# Altium footprint library PcbLib1.PcbLib: 3 footprints
Each footprint in its own frame and in the unit in brackets; x right, y up, seen from the top. Pads: shape width x height; smd on the part's side, far side on the other; paste and mask are expansions set on the pad; w line width, h text height; cw(c..) or ccw(c..) is an arc to the next point about the centre after c.
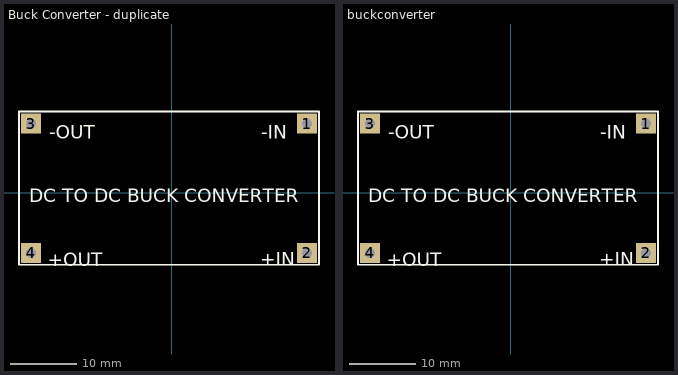
[diagram p0: the footprints below, top view; thin cyan lines are the x and y axes]

## Buck Converter - duplicate [mm]
pads (4):
  rect 3x3 hole 1.5 paste-2539.97 mask+0.102: 1(20.319,10.392) 2(20.319,-9.008) 3(-21.081,10.392) 4(-21.081,-9.008)
Top Overlay:
  lines w0.254: -22.881,-10.808 22.119,-10.808 22.119,12.192 -22.881,12.192 -22.881,-10.808
  text "-IN" at 13.441,8.128 h2.03
  text "+IN" at 13.314,-10.922 h2.03
  text "-OUT" at -18.309,8.128 h2.03
  text "+OUT" at -18.563,-11.049 h2.03
  text "DC TO DC BUCK CONVERTER" at -21.357,-1.397 h2.03
Mechanical 15:
  lines w0.003: 3.704,1.016 3.704,1.016

## buckconverter [mm]
pads (4):
  rect 3x3 hole 1.5 paste-2539.97 mask+0.102: 1(20.319,10.392) 2(20.319,-9.008) 3(-21.081,10.392) 4(-21.081,-9.008)
Top Overlay:
  lines w0.254: -22.881,-10.808 22.119,-10.808 22.119,12.192 -22.881,12.192 -22.881,-10.808
  text "-IN" at 13.441,8.128 h2.03
  text "+IN" at 13.314,-10.922 h2.03
  text "-OUT" at -18.309,8.128 h2.03
  text "+OUT" at -18.563,-11.049 h2.03
  text "DC TO DC BUCK CONVERTER" at -21.357,-1.397 h2.03
Mechanical 15:
  lines w0.003: 3.704,1.016 3.704,1.016

## PCBComponent_1 [mm]